# Altium footprint library XH2.54_DIP_母座.PcbLib: 18 footprints (part 2 of 2)
Each footprint in its own frame and in the unit in brackets; x right, y up, seen from the top. Pads: shape width x height; smd on the part's side, far side on the other; paste and mask are expansions set on the pad; w line width, h text height; cw(c..) or ccw(c..) is an arc to the next point about the centre after c.
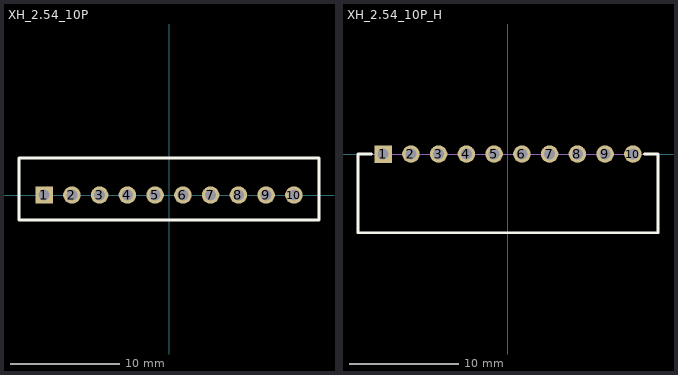
[diagram p1: the footprints below, top view; thin cyan lines are the x and y axes]

## XH_2.54_10P [mm]
pads (10):
  rect 1.6x1.6 hole 1: 1(-11.43,0)
  round 1.6 hole 1: 2(-8.89,0) 3(-6.35,0) 4(-3.81,0) 5(-1.27,0) 6(1.27,0) 7(3.81,0) 8(6.35,0) 9(8.89,0) 10(11.43,0)
Top Overlay:
  lines w0.254: -13.73,-2.3 -13.73,3.4 13.73,3.4 13.73,-2.3 -13.73,-2.3
Mechanical 15:
  lines w0.1: -13.73,-2.3 -13.73,3.4 13.73,3.4 13.73,-2.3 -13.73,-2.3
3D body "Header-XH2.54-10.STEP": height 7, standoff -3.3, extent -13.8,-2.3 13.8,3.4

## XH_2.54_10P_H [mm]
pads (10):
  rect 1.6x1.6 hole 1: 1(-11.43,0)
  round 1.6 hole 1: 2(-8.89,0) 3(-6.35,0) 4(-3.81,0) 5(-1.27,0) 6(1.27,0) 7(3.81,0) 8(6.35,0) 9(8.89,0) 10(11.43,0)
Top Overlay:
  lines w0.254: -12.5,0 -13.73,0 -13.73,-7.2 13.73,-7.2 13.73,0 12.5,0
Mechanical 15:
  lines w0.1: -13.73,-7.2 -13.73,0 13.73,0 13.73,-7.2 -13.73,-7.2